# Altium schematic symbol library MCABT-408-RC.SchLib: 1 symbol
Pins are listed as number, name and electrical type; pins without a type are passive.

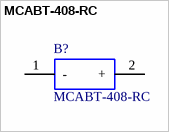
[diagram p0: symbol MCABT-408-RC]

## MCABT-408-RC
designator B?
MULTICOMP - MCABT-408-RC - SOUNDER, ELECTRO MECH, AUDIO, 1.5VP-P; Geometry.Height: 7.5mm; Manufacturer_Name: MULTICOMP; Manufacturer_Part_Number: MCABT-408-RC; RS Part Number: *; RS Price/Stock: *; Arrow Part Number: MCABT-408-RC; Arrow Price/Stock: *; Datasheet Link: http://www.farnell.com/datasheets/1768519.pdf
footprint MCABT408RC
pins: 1 -, 2 +